# Altium schematic symbol library Schlib1.SchLib: 1 symbol
Pins are listed as number, name and electrical type; pins without a type are passive.

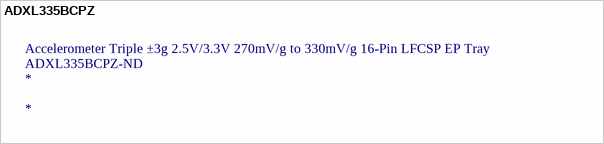
[diagram p0: symbol ADXL335BCPZ]

## ADXL335BCPZ
designator *  Supplier Part Number 1: ADXL335BCPZ-ND
Accelerometer Triple ±3g 2.5V/3.3V 270mV/g to 330mV/g 16-Pin LFCSP EP Tray; Manufacturer: Analog Devices; Manufacturer Part Number: ADXL335BCPZ; Sensitivity: 300mV/g; Min Supply Voltage: 1.8V; Max Supply Voltage: 3.6V; Bandwidth: 550Hz; -3db Bandwidth: 1.6kHz; Nominal Supply Current: 350uA; Output Type: Analog; Axis: X, Y, Z; Supplier 1: Digi-Key; RoHS: Yes; Category: Sensors; Stock 1: 258; Pricing 1: 1=6.02000, 10=5.44000, 25=5.18640, 100=4.50340, 500=3.92150, 1000=3.41550, 5000=3.36490 (USD); Case/Package: LFCSP EP; Number of Pins: 16; Contact Plating: Tin,Matte; Min Operating Temperature: -40°C; Max Operating Temperature: 85°C; Package Quantity: 1; Packaging: Tray; Operating Supply Current: 350uA; Length: 4mm; Width: 4mm; Height: 1.43mm; Depth: 4mm; Radiation Hardening: No; Lead Free: Contains Lead; REACH SVHC: No SVHC; ComponentLink1URL: https://datasheet.ciiva.com/15099/getdatasheetpartid-257946-15099679.pdf?src-supplier=Verical; ComponentLink1Description: https://datasheet.ciiva.com/15099/getdatasheetpartid-257946-15099679.pdf?src-supplier=Verical; ComponentLink2URL: https://datasheet.ciiva.com/1165/1512959-1165506.pdf?src-supplier=Element14; ComponentLink2Description: https://datasheet.ciiva.com/1165/1512959-1165506.pdf?src-supplier=Element14; ComponentLink3URL: https://datasheet.ciiva.com/14184/adxl335-eng-tds-14184011.pdf?src-supplier=Distrelec; ComponentLink3Description: https://datasheet.ciiva.com/14184/adxl335-eng-tds-14184011.pdf?src-supplier=Distrelec; ComponentLink4URL: https://datasheet.ciiva.com/3271/adxl335-3271526.pdf?src-supplier=Avnet; ComponentLink4Description: https://datasheet.ciiva.com/3271/adxl335-3271526.pdf?src-supplier=Avnet; ComponentLink5URL: https://datasheet.ciiva.com/25911/adxl335-25911608.pdf?src-supplier=Avnet+Europe; ComponentLink5Description: https://datasheet.ciiva.com/25911/adxl335-25911608.pdf?src-supplier=Avnet+Europe; ComponentLink6URL: https://datasheet.ciiva.com/2809/adxl335-2809948.pdf?src-supplier=Digi-Key; ComponentLink6Description: https://datasheet.ciiva.com/2809/adxl335-2809948.pdf?src-supplier=Digi-Key